# EAGLE library part MB85RS1MT (library fujitsu)
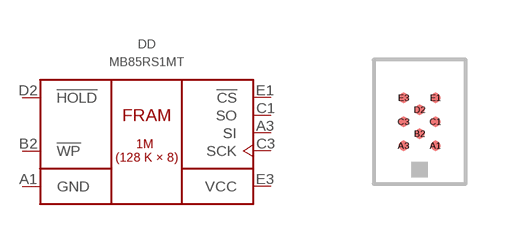
[diagram p0: symbol with the pads of WLP-8P-M01; footprint WLP-8P-M01]

Designator prefix DD

## MB85RS1MTPW-G-APEWE1  [WLP-8P-M01]
A1  GND  pwr
A3  SI  in
B2  !WP  in
C1  SO  out
C3  SCK  in
D2  !HOLD  in
E1  !CS  in
E3  VCC  pwr

## Footprint WLP-8P-M01 (pad centres in mm)
smd 0.25 x 0.25: A1 0.4,-0.6; A3 -0.4,-0.6; B2 0,-0.3; C1 0.4,0; C3 -0.4,0; D2 0,0.3; E1 0.4,0.6; E3 -0.4,0.6